# Altium footprint library tdk.PcbLib: 64 footprints (part 1 of 4)
Each footprint in its own frame and in the unit in brackets; x right, y up, seen from the top. Pads: shape width x height; smd on the part's side, far side on the other; paste and mask are expansions set on the pad; w line width, h text height; cw(c..) or ccw(c..) is an arc to the next point about the centre after c.
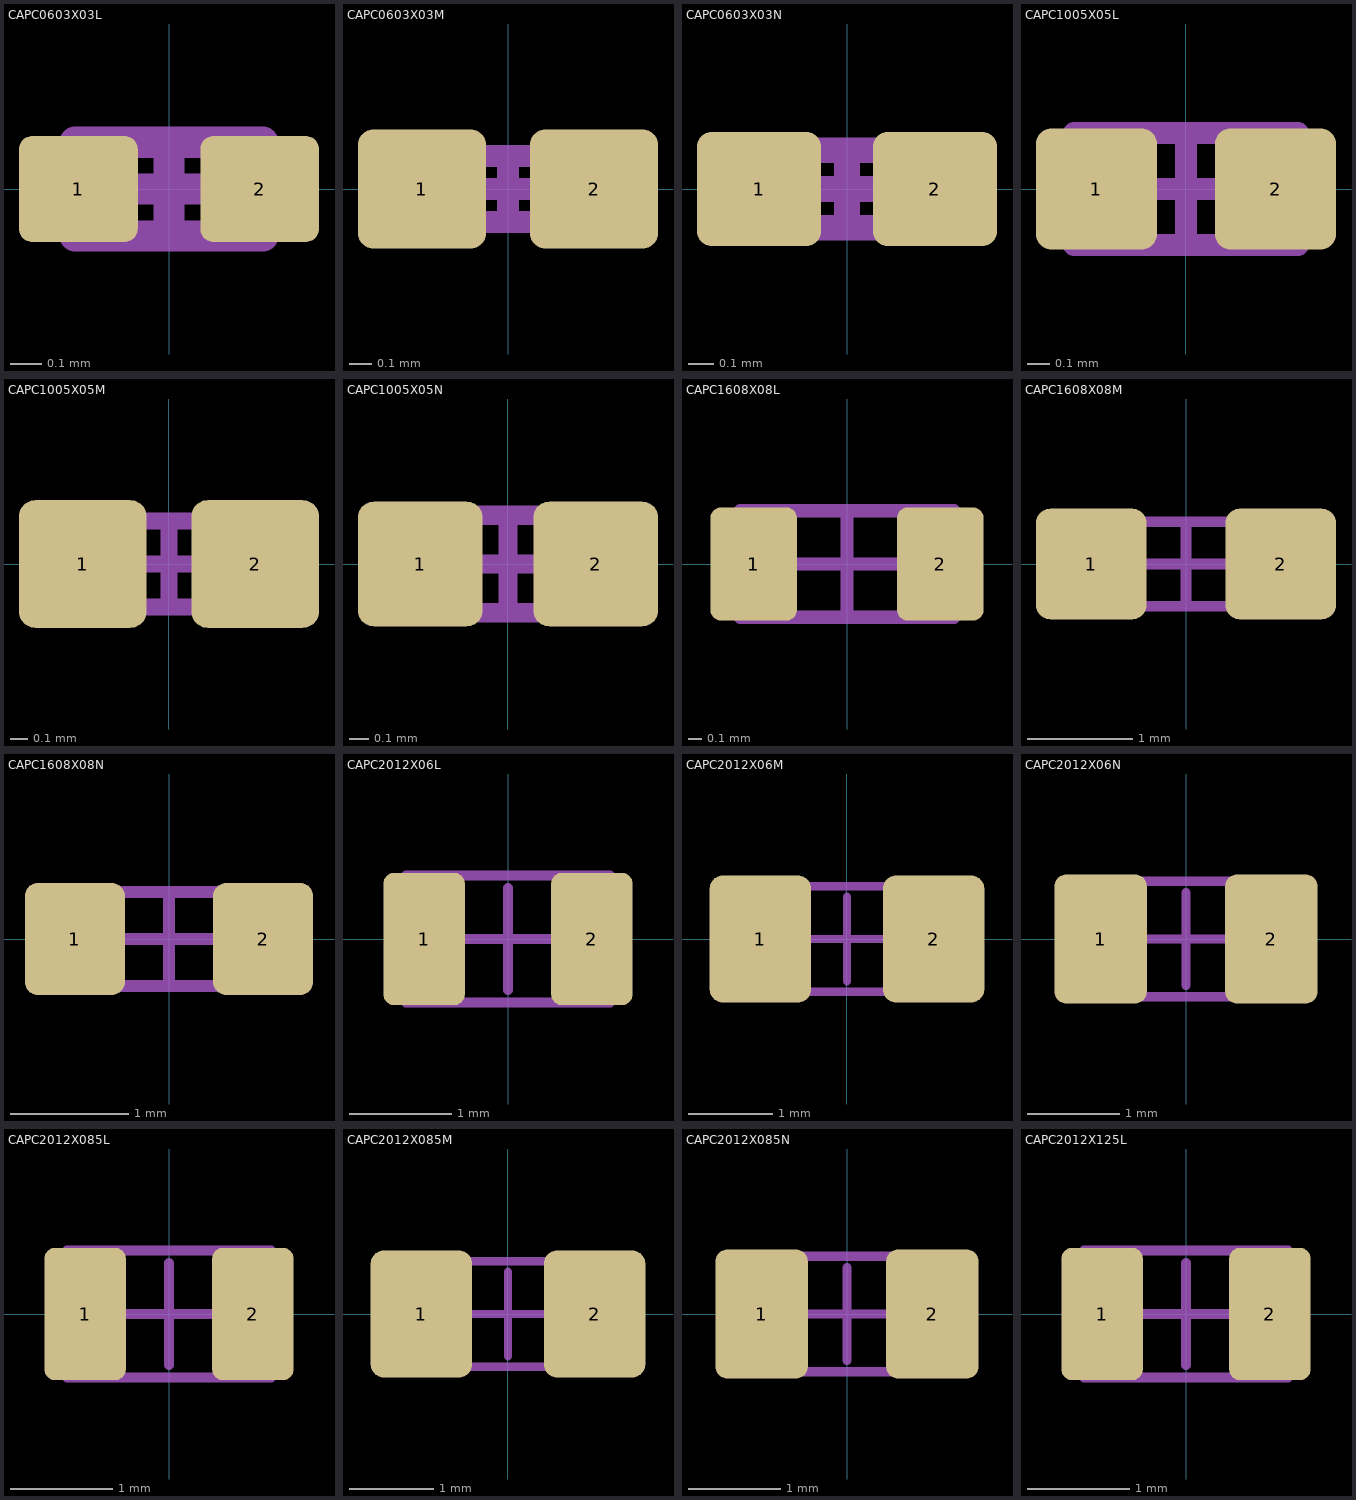
[diagram p0: the footprints below, top view; thin cyan lines are the x and y axes]

## CAPC0603X03L [mm] "Chip Capacitor, 2-Leads, Body 0.60x0.30mm, IPC High Density"
height 0.3
pads (2):
  rrect25% 0.38x0.34 smd mask+0.05: 1(-0.29,0) 2(0.29,0)
Mechanical 15:
  lines w0.1: -0.15,0 0.15,0 ; 0,-0.15 0,0.15 ; -0.3,-0.15 0.3,-0.15 0.3,0.15 -0.3,0.15 -0.3,-0.15
3D body "CAPC0603X03L.step": height 0.3, standoff 0, extent -0.3,-0.15 0.3,0.15

## CAPC0603X03M [mm] "Chip Capacitor, 2-Leads, Body 0.60x0.30mm, IPC Low Density"
height 0.3
pads (2):
  rrect25% 0.58x0.54 smd mask+0.05: 1(-0.39,0) 2(0.39,0)
Mechanical 15:
  lines w0.1: -0.15,0 0.15,0 ; 0,-0.15 0,0.15 ; -0.3,-0.15 -0.3,0.15 0.3,0.15 0.3,-0.15 -0.3,-0.15
3D body "CAPC0603X03M.step": height 0.3, standoff 0, extent -0.3,-0.15 0.3,0.15

## CAPC0603X03N [mm] "Chip Capacitor, 2-Leads, Body 0.60x0.30mm, IPC Medium Density"
height 0.3
pads (2):
  rrect25% 0.48x0.44 smd mask+0.05: 1(-0.34,0) 2(0.34,0)
Mechanical 15:
  lines w0.1: -0.15,0 0.15,0 ; 0,-0.15 0,0.15 ; -0.3,-0.15 0.3,-0.15 0.3,0.15 -0.3,0.15 -0.3,-0.15
3D body "CAPC0603X03N.step": height 0.3, standoff 0, extent -0.3,-0.15 0.3,0.15

## CAPC1005X05L [mm] "Chip Capacitor, 2-Leads, Body 1.00x0.50mm, IPC High Density"
height 0.5
pads (2):
  rrect25% 0.54x0.54 smd mask+0.05: 1(-0.4,0) 2(0.4,0)
Mechanical 15:
  lines w0.1: -0.25,0 0.25,0 ; 0,-0.25 0,0.25 ; -0.5,-0.25 -0.5,0.25 0.5,0.25 0.5,-0.25 -0.5,-0.25
3D body "CAPC1005X05L.step": height 0.5, standoff 0, extent -0.5,-0.25 0.5,0.25

## CAPC1005X05M [mm] "Chip Capacitor, 2-Leads, Body 1.00x0.50mm, IPC Low Density"
height 0.5
pads (2):
  rrect25% 0.74x0.74 smd mask+0.05: 1(-0.5,0) 2(0.5,0)
Mechanical 15:
  lines w0.1: -0.25,0 0.25,0 ; 0,-0.25 0,0.25 ; -0.5,-0.25 -0.5,0.25 0.5,0.25 0.5,-0.25 -0.5,-0.25
3D body "CAPC1005X05M.step": height 0.5, standoff 0, extent -0.5,-0.25 0.5,0.25

## CAPC1005X05N [mm] "Chip Capacitor, 2-Leads, Body 1.00x0.50mm, IPC Medium Density"
height 0.5
pads (2):
  rrect25% 0.64x0.64 smd mask+0.05: 1(-0.45,0) 2(0.45,0)
Mechanical 15:
  lines w0.1: -0.25,0 0.25,0 ; 0,-0.25 0,0.25 ; -0.5,-0.25 0.5,-0.25 0.5,0.25 -0.5,0.25 -0.5,-0.25
3D body "CAPC1005X05N.step": height 0.5, standoff 0, extent -0.5,-0.25 0.5,0.25

## CAPC1608X08L [mm] "Chip Capacitor, 2-Leads, Body 1.60x0.80mm, IPC High Density"
height 0.8
pads (2):
  rrect25% 0.65x0.85 smd mask+0.05: 1(-0.7,0) 2(0.7,0)
Mechanical 15:
  lines w0.1: -0.4,0 0.4,0 ; 0,-0.4 0,0.4 ; -0.8,-0.4 -0.8,0.4 0.8,0.4 0.8,-0.4 -0.8,-0.4
3D body "CAPC1608X08L.step": height 0.8, standoff 0, extent -0.8,-0.4 0.8,0.4

## CAPC1608X08M [mm] "Chip Capacitor, 2-Leads, Body 1.60x0.80mm, IPC Low Density"
height 0.8
pads (2):
  rrect25% 1.05x1.05 smd mask+0.05: 1(-0.9,0) 2(0.9,0)
Mechanical 15:
  lines w0.1: -0.4,0 0.4,0 ; 0,-0.4 0,0.4 ; -0.8,-0.4 0.8,-0.4 0.8,0.4 -0.8,0.4 -0.8,-0.4
3D body "CAPC1608X08M.step": height 0.8, standoff 0, extent -0.8,-0.4 0.8,0.4

## CAPC1608X08N [mm] "Chip Capacitor, 2-Leads, Body 1.60x0.80mm, IPC Medium Density"
height 0.8
pads (2):
  rrect25% 0.85x0.95 smd mask+0.05: 1(-0.8,0) 2(0.8,0)
Mechanical 15:
  lines w0.1: -0.4,0 0.4,0 ; 0,-0.4 0,0.4 ; -0.8,-0.4 0.8,-0.4 0.8,0.4 -0.8,0.4 -0.8,-0.4
3D body "CAPC1608X08N.step": height 0.8, standoff 0, extent -0.8,-0.4 0.8,0.4

## CAPC2012X06L [mm] "Chip Capacitor, 2-Leads, Body 2.00x1.25mm, IPC High Density"
height 0.6
pads (2):
  rrect25% 0.8x1.3 smd mask+0.05: 1(-0.825,0) 2(0.825,0)
Mechanical 15:
  lines w0.1: -0.5,0 0.5,0 ; 0,-0.5 0,0.5 ; -1,-0.625 1,-0.625 1,0.625 -1,0.625 -1,-0.625
3D body "CAPC2012X06L.step": height 0.6, standoff 0, extent -1,-0.625 1,0.625

## CAPC2012X06M [mm] "Chip Capacitor, 2-Leads, Body 2.00x1.25mm, IPC Low Density"
height 0.6
pads (2):
  rrect25% 1.2x1.5 smd mask+0.05: 1(-1.025,0) 2(1.025,0)
Mechanical 15:
  lines w0.1: -0.5,0 0.5,0 ; 0,-0.5 0,0.5 ; -1,-0.625 1,-0.625 1,0.625 -1,0.625 -1,-0.625
3D body "CAPC2012X06M.step": height 0.6, standoff 0, extent -1,-0.625 1,0.625

## CAPC2012X06N [mm] "Chip Capacitor, 2-Leads, Body 2.00x1.25mm, IPC Medium Density"
height 0.6
pads (2):
  rrect25% 1x1.4 smd mask+0.05: 1(-0.925,0) 2(0.925,0)
Mechanical 15:
  lines w0.1: -0.5,0 0.5,0 ; 0,-0.5 0,0.5 ; -1,-0.625 -1,0.625 1,0.625 1,-0.625 -1,-0.625
3D body "CAPC2012X06N.step": height 0.6, standoff 0, extent -1,-0.625 1,0.625

## CAPC2012X085L [mm] "Chip Capacitor, 2-Leads, Body 2.00x1.25mm, IPC High Density"
height 0.85
pads (2):
  rrect25% 0.8x1.3 smd mask+0.05: 1(-0.825,0) 2(0.825,0)
Mechanical 15:
  lines w0.1: -0.5,0 0.5,0 ; 0,-0.5 0,0.5 ; -1,-0.625 1,-0.625 1,0.625 -1,0.625 -1,-0.625
3D body "CAPC2012X08L.step": height 0.85, standoff 0, extent -1,-0.625 1,0.625

## CAPC2012X085M [mm] "Chip Capacitor, 2-Leads, Body 2.00x1.25mm, IPC Low Density"
height 0.85
pads (2):
  rrect25% 1.2x1.5 smd mask+0.05: 1(-1.025,0) 2(1.025,0)
Mechanical 15:
  lines w0.1: -0.5,0 0.5,0 ; 0,-0.5 0,0.5 ; -1,-0.625 -1,0.625 1,0.625 1,-0.625 -1,-0.625
3D body "CAPC2012X08M.step": height 0.85, standoff 0, extent -1,-0.625 1,0.625

## CAPC2012X085N [mm] "Chip Capacitor, 2-Leads, Body 2.00x1.25mm, IPC Medium Density"
height 0.85
pads (2):
  rrect25% 1x1.4 smd mask+0.05: 1(-0.925,0) 2(0.925,0)
Mechanical 15:
  lines w0.1: -0.5,0 0.5,0 ; 0,-0.5 0,0.5 ; -1,-0.625 -1,0.625 1,0.625 1,-0.625 -1,-0.625
3D body "CAPC2012X08N.step": height 0.85, standoff 0, extent -1,-0.625 1,0.625

## CAPC2012X125L [mm] "Chip Capacitor, 2-Leads, Body 2.00x1.25mm, IPC High Density"
height 1.25
pads (2):
  rrect25% 0.8x1.3 smd mask+0.05: 1(-0.825,0) 2(0.825,0)
Mechanical 15:
  lines w0.1: -0.5,0 0.5,0 ; 0,-0.5 0,0.5 ; -1,-0.625 1,-0.625 1,0.625 -1,0.625 -1,-0.625
3D body "CAPC2012X12L.step": height 1.25, standoff 0, extent -1,-0.625 1,0.625